# EAGLE library part DSUB25 (library DSDEagleLibrary)
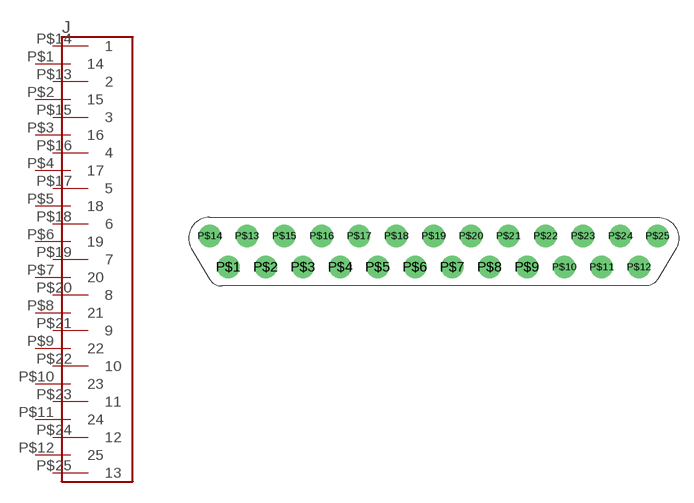
[diagram p35: symbol with the pads of DSUB25; footprint DSUB25]

Designator prefix J

## DSUB25  [DSUB25]
P$1  14
P$2  15
P$3  16
P$4  17
P$5  18
P$6  19
P$7  20
P$8  21
P$9  22
P$10  23
P$11  24
P$12  25
P$13  2
P$14  1
P$15  3
P$16  4
P$17  5
P$18  6
P$19  7
P$20  8
P$21  9
P$22  10
P$23  11
P$24  12
P$25  13

## Footprint DSUB25 (pad centres in mm)
drill 1.143 pad 2.286: P$1 0,0; P$2 3.81,0; P$3 7.62,0; P$4 11.43,0; P$5 15.24,0; P$6 19.05,0; P$7 22.86,0; P$8 26.67,0; P$9 30.48,0; P$10 34.29,0; P$11 38.1,0; P$12 41.91,0; P$13 1.905,3.175; P$14 -1.905,3.175; P$15 5.715,3.175; P$16 9.525,3.175; P$17 13.335,3.175; P$18 17.145,3.175; P$19 20.955,3.175; P$20 24.765,3.175; P$21 28.575,3.175; P$22 32.385,3.175; P$23 36.195,3.175; P$24 40.005,3.175; P$25 43.815,3.175